# Altium integrated library SML-LX0303RGBC1TR.IntLib: 1 symbol
Pins are listed as number, name and electrical type; pins without a type are passive.

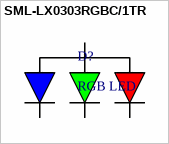
[diagram p0: symbol SML-LX0303RGBC/1TR]

## SML-LX0303RGBC/1TR
designator D?, comment RGB LED
MP: SML-LX0303RGBC/1TR
footprint SML-LX0303RGBC1TR (RGM LED 4SMD)
pins: 1, 2, 3, 4